# Altium footprint library Erico_Ignitor.PcbLib: 55 footprints (part 4 of 4)
Each footprint in its own frame and in the unit in brackets; x right, y up, seen from the top. Pads: shape width x height; smd on the part's side, far side on the other; paste and mask are expansions set on the pad; w line width, h text height; cw(c..) or ccw(c..) is an arc to the next point about the centre after c.
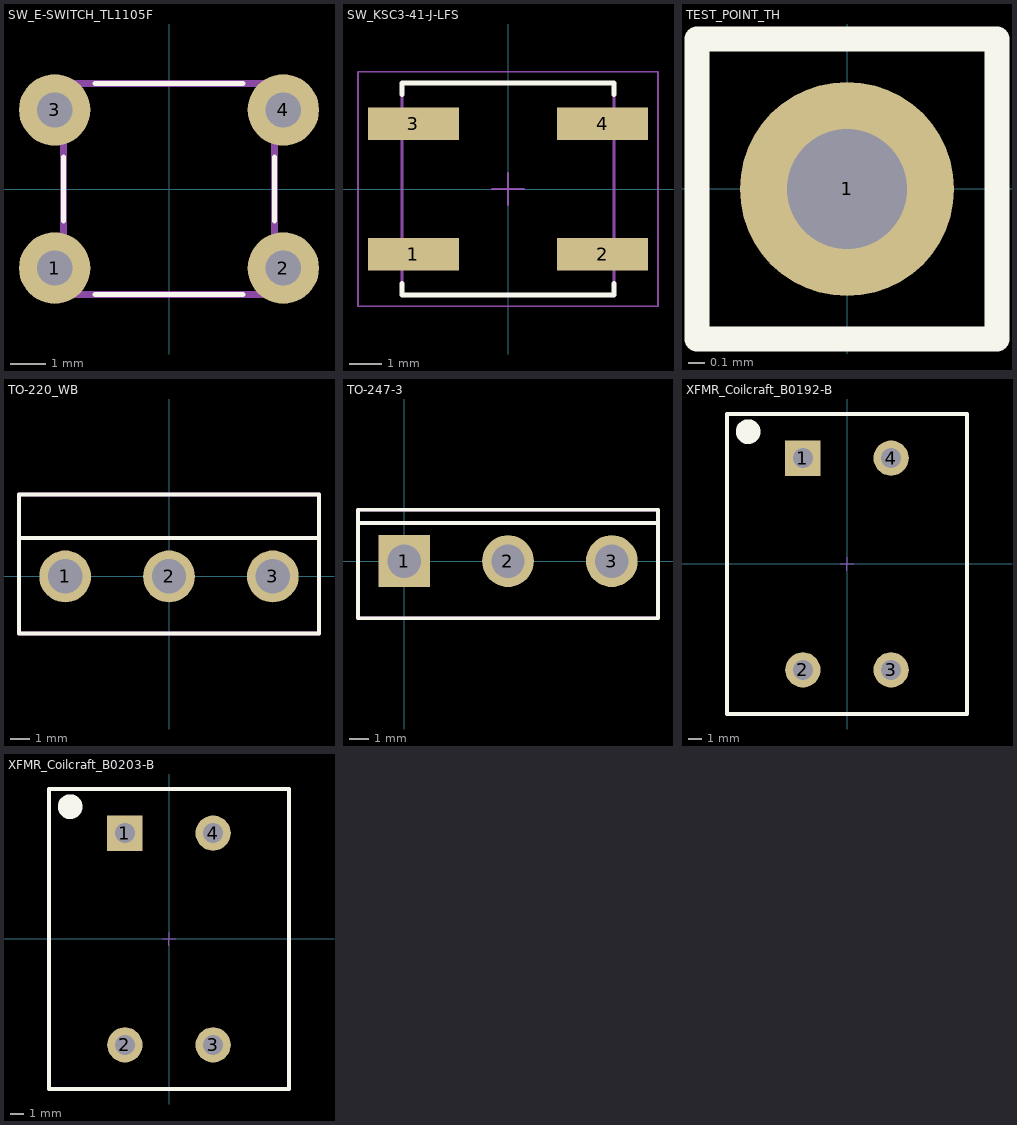
[diagram p3: the footprints below, top view; thin cyan lines are the x and y axes]

## SW_E-SWITCH_TL1105F [mm] "Switch, TACT, 6mm x6mm"
height 7
pads (4):
  round 2.032 hole 1: 1(-3.25,-2.25) 2(3.25,-2.25) 3(-3.25,2.25) 4(3.25,2.25)
Top Overlay:
  lines w0.15: -3,-0.9 -3,0.9 ; -2.1,-3 2.1,-3 ; -2.1,3 2.1,3 ; 3,-0.9 3,0.9
Mechanical 13:
  lines w0.2: -3,-3 -3,3 3,3 3,-3 -3,-3
3D body "TL1105Fxxxx.stp": height 4.31, standoff -3.54, extent -3.947,-3 3.947,3

## SW_KSC3-41-J-LFS [mm]
height 3.47
pads (4):
  rect 2.8x1 smd: 1(-2.9,-2) 2(2.9,-2) 3(-2.9,2) 4(2.9,2)
Top Overlay:
  lines w0.15: -3.25,-2.9 -3.25,-3.25 -0.537,-3.25 3.25,-3.25 3.25,-2.9 ; -3.25,2.9 -3.25,3.25 0.537,3.25 3.25,3.25 3.25,2.9
Mechanical 13:
  lines w0.1: -3.25,-3.25 3.25,-3.25 3.25,3.25 -3.25,3.25 -3.25,-3.25
Mechanical 15:
  lines w0.05: -0.5,0 0.5,0 ; 0,-0.5 0,0.5 ; -4.6,-3.6 -4.6,3.6 4.6,3.6 4.6,-3.6 -4.6,-3.6
3D body "KSC341JLFS.stp": height 3.46, standoff 0, extent -3.4,-3.15 3.4,3.15

## TEST_POINT_TH [mil] "thru-hole tespoint for .025\" square post"
pads (1):
  round 50 hole 28: 1(0,0)
Top Overlay:
  lines w5.91: -35,-35 35,-35 35,35 -35,35 -35,-35

## TO-220_WB [mm] "TO-220, Vert, Wide Body"
height 18.593
pads (3):
  round 2.72 hole 1.81: 1(-5.45,0) 2(0,0) 3(5.45,0)
Top Overlay:
  lines w0.203: -7.875,2.008 7.875,2.008 ; -7.875,-3 -7.875,4.3 7.875,4.3 7.875,-3 -7.875,-3
Mechanical 13:
  lines w0.203: -7.875,2.008 7.875,2.008 ; -7.875,-3 -7.875,4.3 7.875,4.3 7.875,-3 -7.875,-3
3D body "TO220FP Wide Creepage.STEP": height 18.03, standoff -10.84, extent -5.5,-1.65 5.5,3.05

## TO-247-3 [mm] "TO-247-3, Vert"
height 24.45
pads (3):
  rect 2.72x2.72 / inner round 2.72 / far side rect 2.72x2.72 hole 1.75: 1(0,0)
  round 2.72 hole 1.75: 2(5.45,0) 3(10.9,0)
Top Overlay:
  lines w0.203: -2.425,2.008 13.325,2.008 ; -2.425,-3 13.325,-3 13.325,2.7 -2.425,2.7 -2.425,-3
Mechanical 13:
  lines w0.203: -2.425,2.008 13.325,2.008 ; -2.425,-3 13.325,-3 13.325,2.7 -2.425,2.7 -2.425,-3
3D body "TO247.STEP": height 25.86, standoff -16.05, extent -2.68,-3 13.58,2.3

## XFMR_Coilcraft_B0192-B [mil] "Common Mode Line Choke, 4 Pin"
height 1000
pads (4):
  rect 100x100 hole 57: 1(-125,300)
  round 100 hole 57: 2(-125,-300) 3(125,-300) 4(125,300)
Top Overlay:
  circle w40: c-280,375 r15
  lines w10: -340,-425 340,-425 340,425 -340,425 -340,-425
Mechanical 13:
  lines w3.94: -340,-425 340,-425 340,425 -340,425 -340,-425
Mechanical 15:
  lines w1.97: -18.7,0 18.7,0 ; 0,-18.7 0,18.7
3D body: height 150, standoff 0, extent -200,-425 200,425
3D body: height 1024.88, standoff 175.12, extent -200,-425 150,425
3D body: height 450, standoff 0, extent 149.61,-425 200,425
3D body: height 134.8, standoff 85, extent 125,-324.9 335,-275
3D body: height 134.8, standoff 85, extent 125.01,275.06 335.01,324.96
3D body: height 134.8, standoff 85, extent -335.01,275.04 -125.01,324.94
3D body: height 134.8, standoff 85, extent -335.01,-324.96 -125.01,-275.06
3D body: height 0, standoff 0, extent 100.2,-324.9 150.01,-275
3D body: height 0, standoff 0, extent 100.2,275.1 150,325
3D body: height 0, standoff 0, extent -149.8,275.1 -99.99,325
3D body: height 0, standoff 0, extent -149.8,-324.9 -100,-275
3D body: height 200, standoff 0, extent 50.2,-24.95 100,24.96
3D body: height 200, standoff 0, extent -99.8,-24.95 -50,24.96

## XFMR_Coilcraft_B0203-B [mil] "Flyback Toroid Transformer, 4 Pin"
height 1000
pads (4):
  rect 100x100 hole 57: 1(-125,300)
  round 100 hole 57: 2(-125,-300) 3(125,-300) 4(125,300)
Top Overlay:
  circle w40: c-280,375 r15
  lines w10: -340,-425 -340,425 340,425 340,-425 -340,-425
Mechanical 13:
  lines w3.94: -340,-425 -340,425 340,425 340,-425 -340,-425
Mechanical 15:
  lines w1.97: -18.7,0 18.7,0 ; 0,-18.7 0,18.7
3D body: height 200, standoff 0, extent -99.8,-24.95 -50,24.96
3D body: height 200, standoff 0, extent 50.2,-24.95 100,24.96
3D body: height 0, standoff 0, extent -149.8,-324.9 -100,-275
3D body: height 0, standoff 0, extent -149.8,275.1 -99.99,325
3D body: height 0, standoff 0, extent 100.2,275.1 150,325
3D body: height 0, standoff 0, extent 100.2,-324.9 150.01,-275
3D body: height 134.8, standoff 85, extent -335.01,-324.96 -125.01,-275.06
3D body: height 134.8, standoff 85, extent -335.01,275.04 -125.01,324.94
3D body: height 134.8, standoff 85, extent 125.01,275.06 335.01,324.96
3D body: height 134.8, standoff 85, extent 125,-324.9 335,-275
3D body: height 450, standoff 0, extent 149.61,-425 200,425
3D body: height 1024.88, standoff 175.12, extent -200,-425 150,425
3D body: height 150, standoff 0, extent -200,-425 200,425